# Altium schematic symbol library Aluminum Electrolytic Capacitor.SchLib: 1 symbol
Pins are listed as number, name and electrical type; pins without a type are passive.

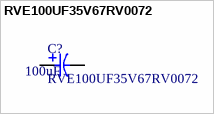
[diagram p0: symbol RVE100UF35V67RV0072]

## RVE100UF35V67RV0072
designator C?  value 100uF
KNSCHA(科尼盛) SMD,D6.3xL7.7mm; 类别: 铝电解电容; 子类别: 贴片型; 精度: ±20%; 额定电压: 35V; 纹波电流: 230mA@120Hz; 等效串联单组: 600mΩ@100kHz; 工作寿命: 2000hrs@105℃; 工作温度: -55℃~+105℃; 制造商: KNSCHA(科尼盛); 封装: SMD,D6.3xL7.7mm
footprint KNSCHA-6372 (KNSCHA(科尼盛) 6.3x7.2mm 推荐焊盘)
pins: 1, 2